# Altium schematic symbol library 150080M153000.Schlib: 1 symbol
Pins are listed as number, name and electrical type; pins without a type are passive.

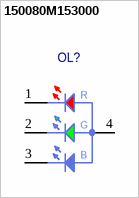
[diagram p0: symbol 150080M153000]

## 150080M153000
designator OL?  (value not drawn)
Right Angle Tricolor (RGB) Surface Mount LED
pins: 1 AR, 2 AG, 3 AB, 4 CC
text: R; G; B